# Altium footprint library PCBControl.PcbLib: 10 footprints
Each footprint in its own frame and in the unit in brackets; x right, y up, seen from the top. Pads: shape width x height; smd on the part's side, far side on the other; paste and mask are expansions set on the pad; w line width, h text height; cw(c..) or ccw(c..) is an arc to the next point about the centre after c.
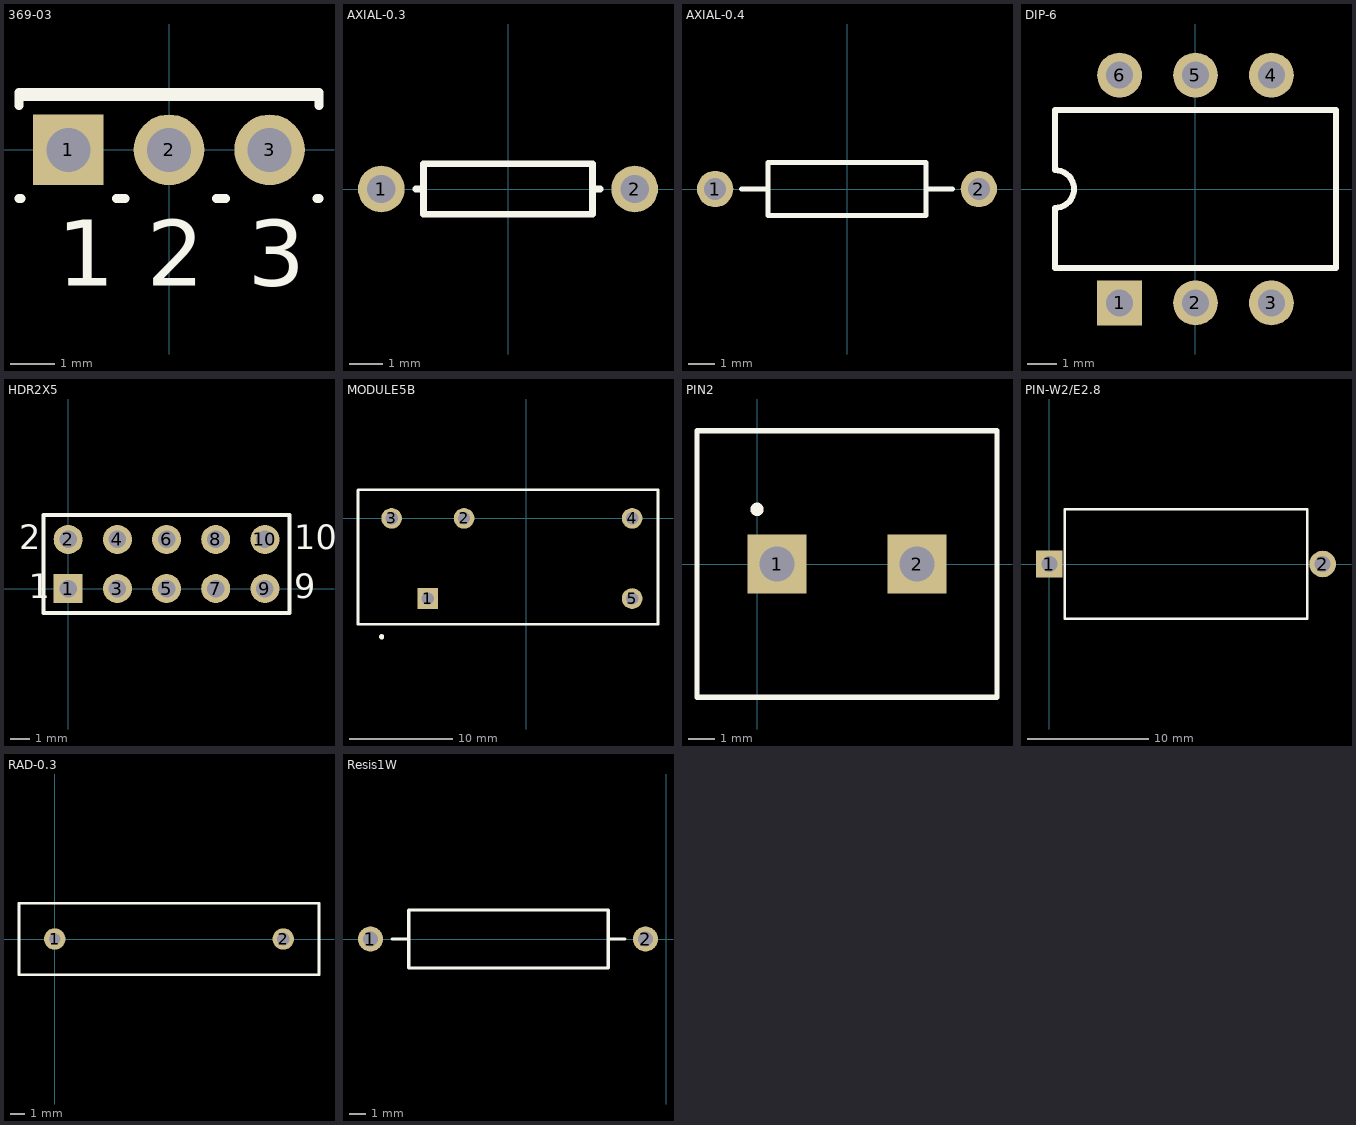
[diagram p0: the footprints below, top view; thin cyan lines are the x and y axes]

## 369-03 [mm] "TO, Thru-Hole, Vertical, Heatsink Mounted; 3 In-Line Leads; Pitch 2.28 mm"
height 9.7
pads (3):
  rect 1.6x1.6 hole 1: 1(-2.28,0)
  round 1.6 hole 1: 2(0,0) 3(2.28,0)
Top Overlay:
  lines w0.2: -3.4,-1.1 -3.35,-1.1 ; -3.4,1 -3.4,1.3 3.4,1.3 3.4,1 ; -3.4,1.21 3.4,1.21 ; -1.19,-1.1 -0.99,-1.1 ; 1.08,-1.1 1.28,-1.1 ; 3.35,-1.1 3.4,-1.1
  text "3" at 1.78,-3.075 h1.5
  text "2" at -0.5,-3.075 h1.5
  text "1" at -2.53,-3.075 h1.5

## AXIAL-0.3 [mm] "Resistor; 2 Leads"
height 1.524
pads (2):
  round 1.4 hole 0.85: 1(-3.81,0) 2(3.81,0)
Top Overlay:
  lines w0.2: -2.769,0 -2.54,0 ; 2.769,0 2.54,0 ; 2.54,0 2.54,0.762 -2.54,0.762 -2.54,-0.762 2.54,-0.762 2.54,0

## AXIAL-0.4 [mm] "Resistor; 2 Leads"
height 2.032
pads (2):
  round 1.4 hole 0.85: 1(-5.08,0) 2(5.08,0)
Top Overlay:
  lines w0.2: -4.064,0 -3.048,0 ; 3.048,0 4.064,0 ; -3.048,-1.016 3.048,-1.016 3.048,1.016 -3.048,1.016 -3.048,-1.016

## DIP-6 [mm] "DIP; 6 Leads; Row Spacing 7.62 mm; Pitch 2.54 mm"
height 5.46
pads (6):
  rect 1.5x1.5 hole 0.9: 1(-2.54,-3.81)
  round 1.5 hole 0.9: 2(0,-3.81) 3(2.54,-3.81) 4(2.54,3.81) 5(0,3.81) 6(-2.54,3.81)
Top Overlay:
  lines w0.2: -4.7,-2.65 4.7,-2.65 4.7,2.65 -4.7,2.65 -4.7,0.635 cw(c-4.7,0) -4.7,-0.635 -4.7,-2.65

## HDR2X5 [mm] "Connector; Header; 5x2 Position"
pads (10):
  rect 1.5x1.5 hole 0.9: 1(0,0)
  round 1.5 hole 0.9: 2(0,2.54) 3(2.54,0) 4(2.54,2.54) 5(5.08,0) 6(5.08,2.54) 7(7.62,0) 8(7.62,2.54) 9(10.16,0) 10(10.16,2.54)
Top Overlay:
  lines w0.2: -1.27,-1.27 -1.27,3.81 11.43,3.81 11.43,-1.27 -1.27,-1.27
  text "2" at -2.54,2.032 h1.27
  text "1" at -2.032,-0.508 h1.27
  text "9" at 11.684,-0.508 h1.27
  text "10" at 11.684,2.032 h1.27

## MODULE5B [mm] "DIP; 5 Round Pins; Row Space 15.24 mm; Pitch 2.54 mm"
height 14
pads (5):
  rect 2x2 hole 1.2: 1(-9.5,-7.75)
  round 2 hole 1.2: 2(-6,0) 3(-13,0) 4(10.25,0) 5(10.25,-7.75)
Top Overlay:
  circle w0.25: c-13.97,-11.45 r0.125
  lines w0.254: -16.25,-10.25 -16.25,2.704 ; -16.206,-10.25 12.75,-10.25 ; -16.206,2.75 12.75,2.75 12.75,-10.204

## PIN2 [mm]
pads (2):
  rect 2.2x2.2 hole 1.3: 1(0.75,0) 2(6,0)
Top Overlay:
  circle w0.25: c0,2.05 r0.125
  lines w0.2: -2.25,-5 -2.25,5 9,5 9,-5 -2.25,-5

## PIN-W2/E2.8 [mm] "Fuse; 2 Leads"
pads (2):
  rect 2.2x2.2 hole 1.3: 1(0,0)
  round 2.2 hole 1.3: 2(22.5,0)
Top Overlay:
  lines w0.2: 1.25,-4.5 1.25,4.5 21.25,4.5 21.25,-4.5 1.25,-4.5

## RAD-0.3 [mm] "Capacitor; 2 Leads"
height 6
pads (2):
  round 1.5 hole 0.8: 1(0,0)
  round 1.5 hole 0.9: 2(16,0)
Top Overlay:
  lines w0.2: -2.5,-2.5 -2.5,2.5 18.5,2.5 18.5,-2.5 -2.5,-2.5

## Resis1W [mm]
pads (2):
  round 1.5 hole 0.9: 1(-17.8,0) 2(-1.25,0)
Top Overlay:
  lines w0.2: -16.5,0 -15.5,0 ; -3.5,0 -2.5,0 ; -15.5,-1.75 -15.5,1.75 -3.5,1.75 -3.5,-1.75 -15.5,-1.75